# EAGLE library part OPA2171?* (library Volks73-TexasInstruments)
Operational Amplifier (OP-AMP) 36V, Single-Supply, SOT553, General-Purpose, Value Line Series Documentation Datasheet <http://www.ti.com/lit/ds/symlink/opa2171.pdf> Features Supply Range: +2.7V to +36V, ±1.35V to ±18V Low Noise: 14nV/√Hz Low Offset Drift: ±0.3µV/°C (typ) RFI Filtered Inputs Input Range Includes the Negative Supply Input Range Operates to Positive Supply Rail-to-Rail Output Gain Bandwidth: 3MHz Low Quiescent Current: 475µA per Amplifier High Common-Mode Rejection: 120dB (typ) Low Input Bias Current: 8pA Industry-Standard Packages: 8-Pin SOIC 8-Pin MSOP 14-Pin TSSOP microPackages: Single in SOT553 Dual in VSSOP-8 Applications Tracking Amplifier in Power Modules Merchant Power Supplies Transducer Amplifiers Bridge Amplifiers Temperature Measurements Strain Gauge Amplifiers Precision Integrators Battery-Powered Instruments Test Equipment Description The OPA171, OPA2171 and OPA4171 (OPAx171) are a family of 36V, single-supply, low-noise operational amplifiers with the ability to operate on supplies ranging from +2.7V (±1.35V) to +36V (±18V). These devices are available in micro-packages and offer low offset, drift, and bandwidth with low quiescent current. The single, dual, and quad versions all have identical specifications for maximum design flexibility. Unlike most op amps, which are specified at only one supply voltage, the OPAx171 family is specified from +2.7V to +36V. Input signals beyond the supply rails do not cause phase reversal. The OPAx171 family is stable with capacitive loads up to 300pF. The input can operate 100mV below the negative rail and within 2V of the top rail during normal operation. Note that these devices can operate with full rail-to-rail input 100mV beyond the top rail, but with reduced performance within 2V of the top rail. The OPAx171 series of op amps are specified from -40oC to +125oC.
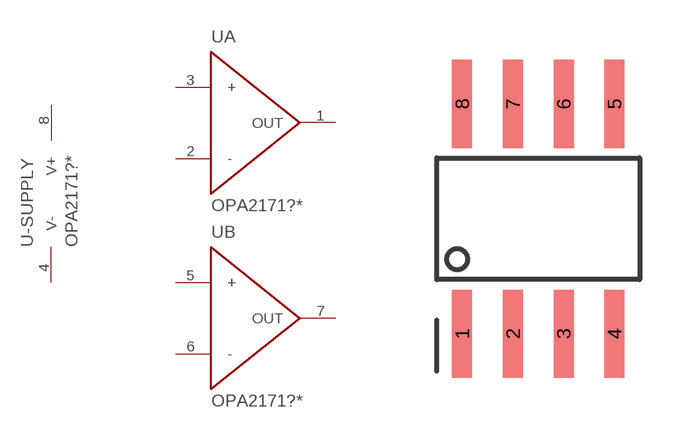
[diagram p3: symbol with the pads of SO-8; footprint SO-8]

Designator prefix U; gates A=OP_AMP B=OP_AMP -SUPPLY=SUPPLY

## OPA2171AIDR (3DB_BANDWIDTH: -; AMPLIFIER_TYPE: General Purpose; CATEGORY: Integrated Circuits (ICs); CURRENT-INPUT_BIAS: 8pA; CURRENT-OUTPUT-CHANNEL: 35mA; CURRENT-SUPPLY: 475µA; DESCRIPTION: IC OPAMP GP 3MHZ RRO 8SOIC; DOCUMENTATION_LINK: <a href="http://www.ti.com/lit/ds/symlink/opa2171.pdf">Datasheet</a>; DOCUMENTATION_URL: http://www.ti.com/lit/ds/symlink/opa2171.pdf; FAMILY: Linear - Amplifiers - Instrumentation, OP Amps, Buffer Amps; GAIN_BANDWIDTH_PRODUCT: 3MHz; MANUFACTURER: Texas Instruments; MOUNTING_TYPE: Surface Mount; NUMBER_OF_CIRCUITS: 2; OPERATING_TEMPERATURE: -40°C ~ 125°C; OUTPUT_TYPE: Rail-to-Rail; PART_NUMBER: OPA2171AIDR; SERIES: -; SLEW_RATE: 1.5 V/µs; SUPPLIER_ITEM_LINK: <a href="http://www.digikey.com/product-detail/en/OPA2171AIDR/296-29091-1-ND/2688394">Details</a>; SUPPLIER_ITEM_NUMBER: 296-29091-1-ND; SUPPLIER_ITEM_URL: http://www.digikey.com/product-detail/en/OPA2171AIDR/296-29091-1-ND/2688394; SUPPLIER_LINK: <a href="http://www.digikey.com">Home Page</a>; SUPPLIER_NAME: Digi-Key; SUPPLIER_URL: http://www.digikey.com; VOLTAGE-INPUT_OFFSET: 250µV; VOLTAGE-SUPPLY: 2.7 V ~ 36 V, ±1.35 V ~ 18 V)  [SO-8]
1  A:OUT
2  A:-
3  A:+
4  -SUPPLY:V-
5  B:+
6  B:-
7  B:OUT
8  -SUPPLY:V+

## Footprint SO-8 (pad centres in mm)
8-Pin Small Outline Integrated Circuit (SOIC) Plastic Small Outline
smd 0.5 x 2.2: 1 -1.905,-2.875; 2 -0.635,-2.875; 3 0.635,-2.875; 4 1.905,-2.875; 5 1.905,2.875; 6 0.635,2.875; 7 -0.635,2.875; 8 -1.905,2.875